# EAGLE library part BME680 (library ic)
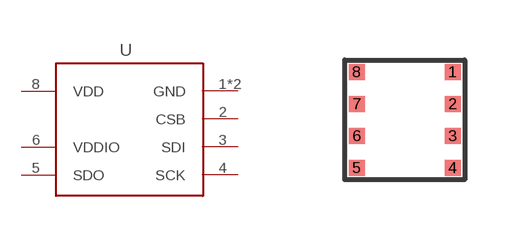
[diagram p8: symbol with the pads of LGA8; footprint LGA8]

Designator prefix -

## BME680  [LGA8]
1  GND
2  CSB
3  SDI
4  SCK
5  SDO
6  VDDIO
7  GND
8  VDD

## Footprint LGA8 (pad centres in mm)
smd 0.4 x 0.4: 1 1.2,1.2; 2 1.2,0.4; 3 1.2,-0.4; 4 1.2,-1.2; 5 -1.2,-1.2; 6 -1.2,-0.4; 7 -1.2,0.4; 8 -1.2,1.2